# EAGLE library part MCP4901 (library PocketCube)
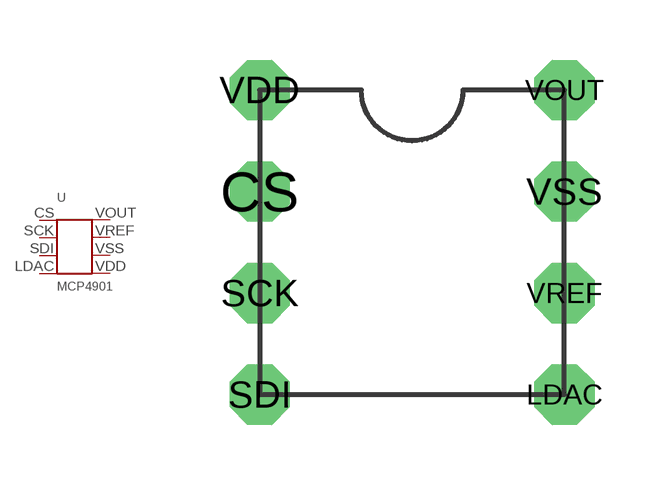
[diagram p13: symbol with the pads of MCP4901; footprint MCP4901]

Designator prefix -

## MCP4901  [MCP4901]
CS  CS
LDAC  LADC
SCK  SCK
SDI  SDI
VDD  VDD
VOUT  VOUT
VREF  VREF
VSS  VCC

## Footprint MCP4901 (pad centres in mm)
drill 1 octagon: CS 0,3.81; LDAC 7.62,-1.27; SCK 0,1.27; SDI 0,-1.27; VDD 0,6.35; VOUT 7.62,6.35; VREF 7.62,1.27; VSS 7.62,3.81